# EAGLE library part TPS6205X (library m-pad)
Ti's TPS6205x 800-mA SYNCHRONOUS STEP-DOWN CONVERTER Description: The TPS6205x devices are a family of high-efficiency synchronous step-down dc/dc converters ideally suited for systems powered from a 1-cell or 2-cell Li-Ion battery or from a 3-cell to 5-cell NiCd, NiMH, or alkaline battery. The TPS62050 is a synchronous PWM converter with integrated N-channel and P-channel power MOSFET switches. Synchronous rectification increases efficiency and reduces external component count. To achieve highest efficiency over a wide load current range, the converter enters a power-saving pulse-frequency modulation (PFM) mode at light load currents. Operating frequency is typically 850 kHz, allowing the use of small inductor and capacitor values. The device can be synchronized to an external clock signal in the range of 600 kHz to 1.2 MHz. For low noise operation, the converter can be programmed into forced-fixed frequency in PWM mode. In shutdown mode, the current consumption is reduced to less than 2 µA. The TPS6205x is available in the 10-pin (DGS) micro-small outline package (MSOP) and operates over an free air temperature range of -40°C to 85°C. Features: High-Efficiency Synchronous Step-Down Converter With up to 95% Efficiency 12-µA Quiescent Current (Typ) 2.7-V to 10-V Operating Input Voltage Range Adjustable Output Voltage Range From 0.7 V to 6 V Fixed Output Voltage Options Available in 1.5 V, 1.8 V, and 3.3 V Synchronizable to External Clock Signal up to 1.2 MHz High Efficiency Over a Wide Load Current Range in Power-Save Mode 100% Maximum Duty Cycle for Lowest Dropout Low Noise Operation in Forced Fixed Frequency PWM Operation Mode Internal Softstart Overtemperature and Overcurrent Protected Available in 10-Pin Microsmall Outline Package MSOP Applications: Cellular Phones Organizers, PDAs, and Handheld PCs Low Power DSP Supply Digital Cameras and Hard Disks Please send any comments to: messi@users.sourceforge.net
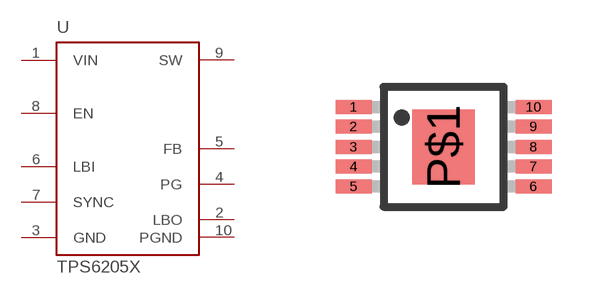
[diagram p186: symbol with the pads of MSOP-10; footprint MSOP-10]

Designator prefix U

## TPS6205X  [MSOP-10]
1  VIN  pwr
2  LBO  pas
3  GND  pwr
4  PG
5  FB
6  LBI  pas
7  SYNC  in
8  EN  in
9  SW
10  PGND  pwr

## Footprint MSOP-10 (pad centres in mm)
Ti's MSOP-10 with PowerPAD
smd 0.9 x 0.35: 1 -2.25,1; 2 -2.25,0.51; 3 -2.25,0; 4 -2.25,-0.49; 5 -2.25,-0.99; 6 2.25,-0.99; 7 2.25,-0.49; 8 2.25,0; 9 2.25,0.51; 10 2.25,1
smd 1.57 x 1.88: P$1 0,0